# Altium schematic symbol library CRCW040222R0JNED.SchLib: 1 symbol
Pins are listed as number, name and electrical type; pins without a type are passive.

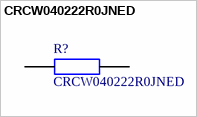
[diagram p0: symbol CRCW040222R0JNED]

## CRCW040222R0JNED
designator R?
RESISTOR, 0402 22 Ohms 5% 0.063 W; Manufacturer_Name: Vishay; Geometry.Height: 0.4mm; Mouser Part Number: 71-CRCW0402J-22-E3; Manufacturer_Part_Number: CRCW040222R0JNED; Datasheet Link: https://componentsearchengine.com/Datasheets/1/CRCW040222R0JNED.pdf
footprint RESC1005X40N
pins: 1, 2